# Altium schematic symbol library RPSLib.SchLib: 121 symbols (part 2 of 3)
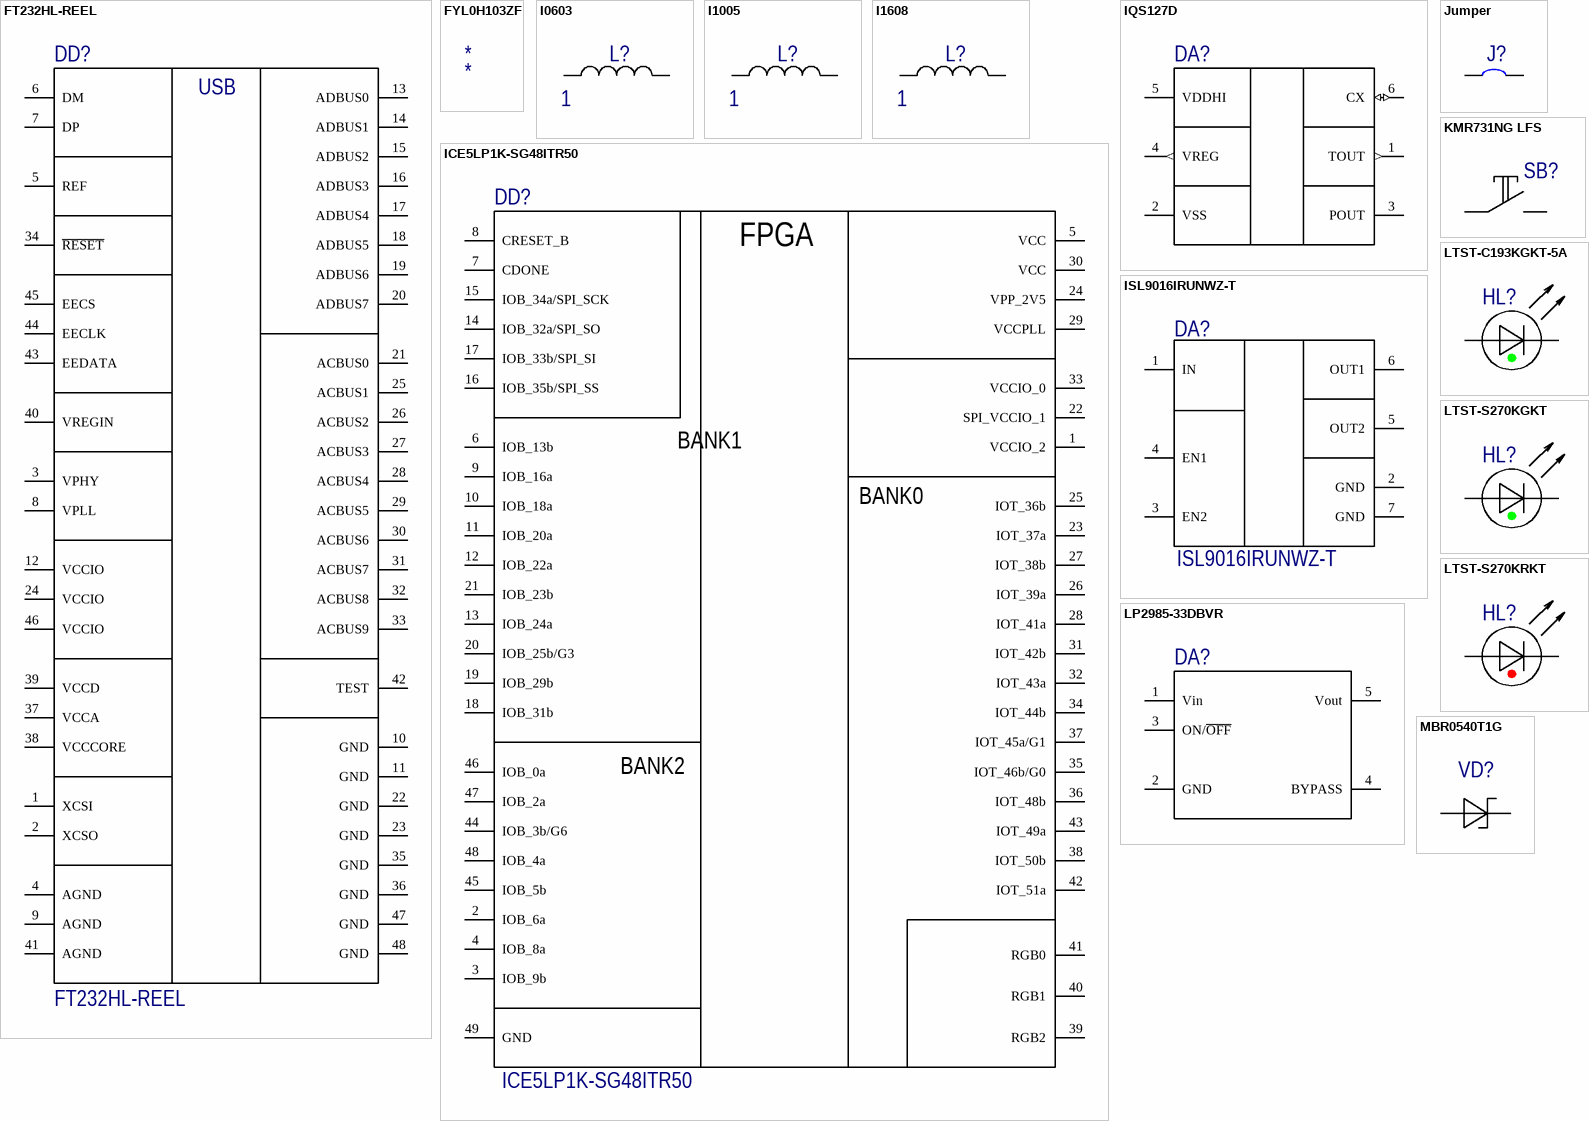
[diagram p7: symbols FT232HL-REEL to MBR0540T1G]

## LTST-C193KGKT-5A
designator HL?  (value not drawn)
Lite-On LTST-C193KGKT-5A Green LED, 576.5 nm 1608 (0603), Rectangle Lens SMD package; Manufacturer: Vishay Lite-On; Lens Colour: Clear,Colorless; Luminous Intensity: 28mcd; Forward Current: 30mA; Viewing Angle: 130°; Forward Voltage: 2.3V; Lens Style: Clear,Colorless,Diffused,Rectangular; Illumination Colour: Green,Yellow; Test Current: 5mA; Number of Elements: 1; Power Dissipation: 75mW; Reverse Voltage: 5V; Lens Transparency: Clear; РКД Наименование: LTST-C193KGKT-5A; Supplier 1: Digi-Key; Manufacturer Part Number: LTST-C193KGKT-5A; Stock 1: 421729; Pricing 1: 1=0.41, 10=0.296, 25=0.2268, 100=0.148, 250=0.10852, 500=0.0921, 1000=0.07565, 2500=0.06578 (USD); Mount: Surface Mount; Case/Package: 0603; Number of Pins: 2; Colour: Green; Case Code (Metric): 1608; Case Code (Imperial): 0603; Min Operating Temperature: -55°C; Max Operating Temperature: 85°C; Packaging: Tape and Reel; Package Quantity: 3000; Dominant Wavelength: 576.5nm; Number of LEDs: 1; Power Rating: 75mW; Length: 1.6mm; Height: 0.35mm; Width: 0.8mm; Depth: 0.8mm; Radiation Hardening: No; Lead Free: Lead Free; ComponentLink1URL: http://www1.futureelectronics.com/doc/LITE-ON/LTST-C193KGKT-5A.pdf; ComponentLink1Description: http://www1.futureelectronics.com/doc/LITE-ON/LTST-C193KGKT-5A.pdf; ComponentLink2URL: http://optoelectronics.liteon.com/upload/download/DS22-2007-0094/LTST-C193KGKT-5A.PDF; ComponentLink2Description: http://optoelectronics.liteon.com/upload/download/DS22-2007-0094/LTST-C193KGKT-5A.PDF; ComponentLink3URL: http://www.mouser.com/ds/2/239/LTST-C193_Series-201756.pdf; ComponentLink3Description: http://www.mouser.com/ds/2/239/LTST-C193_Series-201756.pdf; ComponentLink4URL: http://uk.rs-online.com/webdocs/1406/0900766b81406ab4.pdf; ComponentLink4Description: http://uk.rs-online.com/webdocs/1406/0900766b81406ab4.pdf; Supplier Part Number 1: 160-1828-1-ND
footprint DIOC1608X04N_LED (Chip LED, 2-Leads, Body 1,60x0,80mm, IPC Medium Density)
pins: 1 C, 2 A
1 alternate drawing of the same symbol

## LTST-S270KGKT
designator HL?  (value not drawn)
LED Uni-Color Green 574nm 2-Pin Chip LED T/R; Manufacturer: Vishay Lite-On; Lens Colour: Clear,Colorless; Forward Current: 30mA; Forward Voltage: 2V; Luminous Intensity: 71mcd; Viewing Angle: 130°; Lens Style: Clear,Colorless,Diffused,Rectangular; Dominant Wavelength: 571nm; Test Current: 20mA; Lens Transparency: Clear; Number of Elements: 1; Power Dissipation: 75mW; Reverse Voltage: 5V; РКД Наименование: LTST-S270KGKT - Green LED, right angle SMD; Digikey: *; Supplier 1: Digi-Key; Manufacturer Part Number: LTST-S270KGKT; Stock 1: 455373; Pricing 1: 1=0.32, 10=0.23, 25=0.1696, 100=0.1213, 250=0.08244, 500=0.07276, 1000=0.05699 (USD); Mount: Surface Mount; Case/Package: 0603; Number of Pins: 2; Colour: Green; Case Code (Metric): 1608; Case Code (Imperial): 0603; Min Operating Temperature: -55°C; Max Operating Temperature: 85°C; Illumination Colour: Green; Packaging: Tape and Reel; Package Quantity: 1; Wavelength: 574nm; Number of LEDs: 1; Power Rating: 75mW; Length: 1.6mm; Height: 0.6mm; Width: 1.15mm; Depth: 0.6mm; Radiation Hardening: No; Lead Free: Lead Free; Supplier Part Number 1: 160-1478-1-ND
footprint LTST-S270KGKT (LED Green Right Angle)
pins: 1 C, 2 A
1 alternate drawing of the same symbol

## LTST-S270KRKT
designator HL?  (value not drawn)
LED Uni-Color Red 639nm 2-Pin Chip LED T/R; Manufacturer: Vishay Lite-On; Lens Colour: Clear,Colorless; Forward Voltage: 2V; Forward Current: 30mA; Luminous Intensity: 54mcd; Viewing Angle: 130°; Lens Style: Clear,Colorless,Diffused,Rectangular; Power Rating: 75mW; Dominant Wavelength: 631nm; Test Current: 20mA; Lens Transparency: Clear; Number of Elements: 1; Reverse Voltage: 5V; РКД Наименование: LTST-S270KRKT - Red LED, right angle SMD; Supplier 1: Digi-Key; Manufacturer Part Number: LTST-S270KRKT; Stock 1: 249625; Pricing 1: 1=0.27, 10=0.196, 25=0.1448, 100=0.1034, 250=0.07032, 500=0.06204, 1000=0.0486 (USD); Mount: Surface Mount; Case/Package: 0603; Number of Pins: 2; Colour: Red; Case Code (Metric): 1608; Case Code (Imperial): 0603; Min Operating Temperature: -55°C; Max Operating Temperature: 85°C; Packaging: Tape and Reel; Package Quantity: 1; Illumination Colour: Red; Power Dissipation: 75mW; Wavelength: 639nm; Number of LEDs: 1; Max Power Dissipation: 75mW; Length: 1.6mm; Height: 0.6mm; Width: 1.15mm; Depth: 0.6mm; Radiation Hardening: No; Lead Free: Lead Free; Supplier Part Number 1: 160-1479-1-ND
footprint LTST-S270KRKT (LED Red Right Angle)
pins: 1 C, 2 A
1 alternate drawing of the same symbol

## MBR0540T1G
designator VD?  (value not drawn)
DIODE SCHOTTKY 40V 500MA SOD123; Manufacturer: ON Semiconductor; Current: 0.5 A; Max Surge Current: 5.5A; Forward Voltage: 510mV; Peak Reverse Current: 20uA; Element Configuration: Single; Polarity: Standard; Voltage: 40 V; Supplier 1: Digi-Key; Supplier Part Number 1: MBR0540T1GOSCT-ND; PartNo: MBR0540T1G; Manufacturer Part Number: MBR0540T1G; Stock 1: 724811; Pricing 1: 1=0.41, 10=0.333, 100=0.1763, 500=0.116, 1000=0.07888 (USD); Case/Package: SOD-123-2; Number of Pins: 2; Contact Plating: Matte,Tin; Min Operating Temperature: -55°C; Max Operating Temperature: 150°C; Forward Current: 500mA; Package Quantity: 1; Packaging: Tape and Reel; Max Reverse Leakage Current: 20uA; Average Rectified Current: 500mA; Max Repetitive Reverse Voltage (Vrrm): 40V; Max Forward Surge Current (Ifsm): 5.5A; Peak Non-Repetitive Surge Current: 5.5A; Voltage Rating (DC): 40V; Current Rating: 500mA; Output Current: 500mA; Max Reverse Voltage (DC): 40V; Length: 0.111inch; Height: 0.049inch; Width: 0.071inch; Radiation Hardening: No; REACH SVHC: No SVHC; Lead Free: Lead Free; Halogen Free: Halogen Free; РКД Наименование: *
footprint SOD123 (Footprint not found)
pins: 1, 2

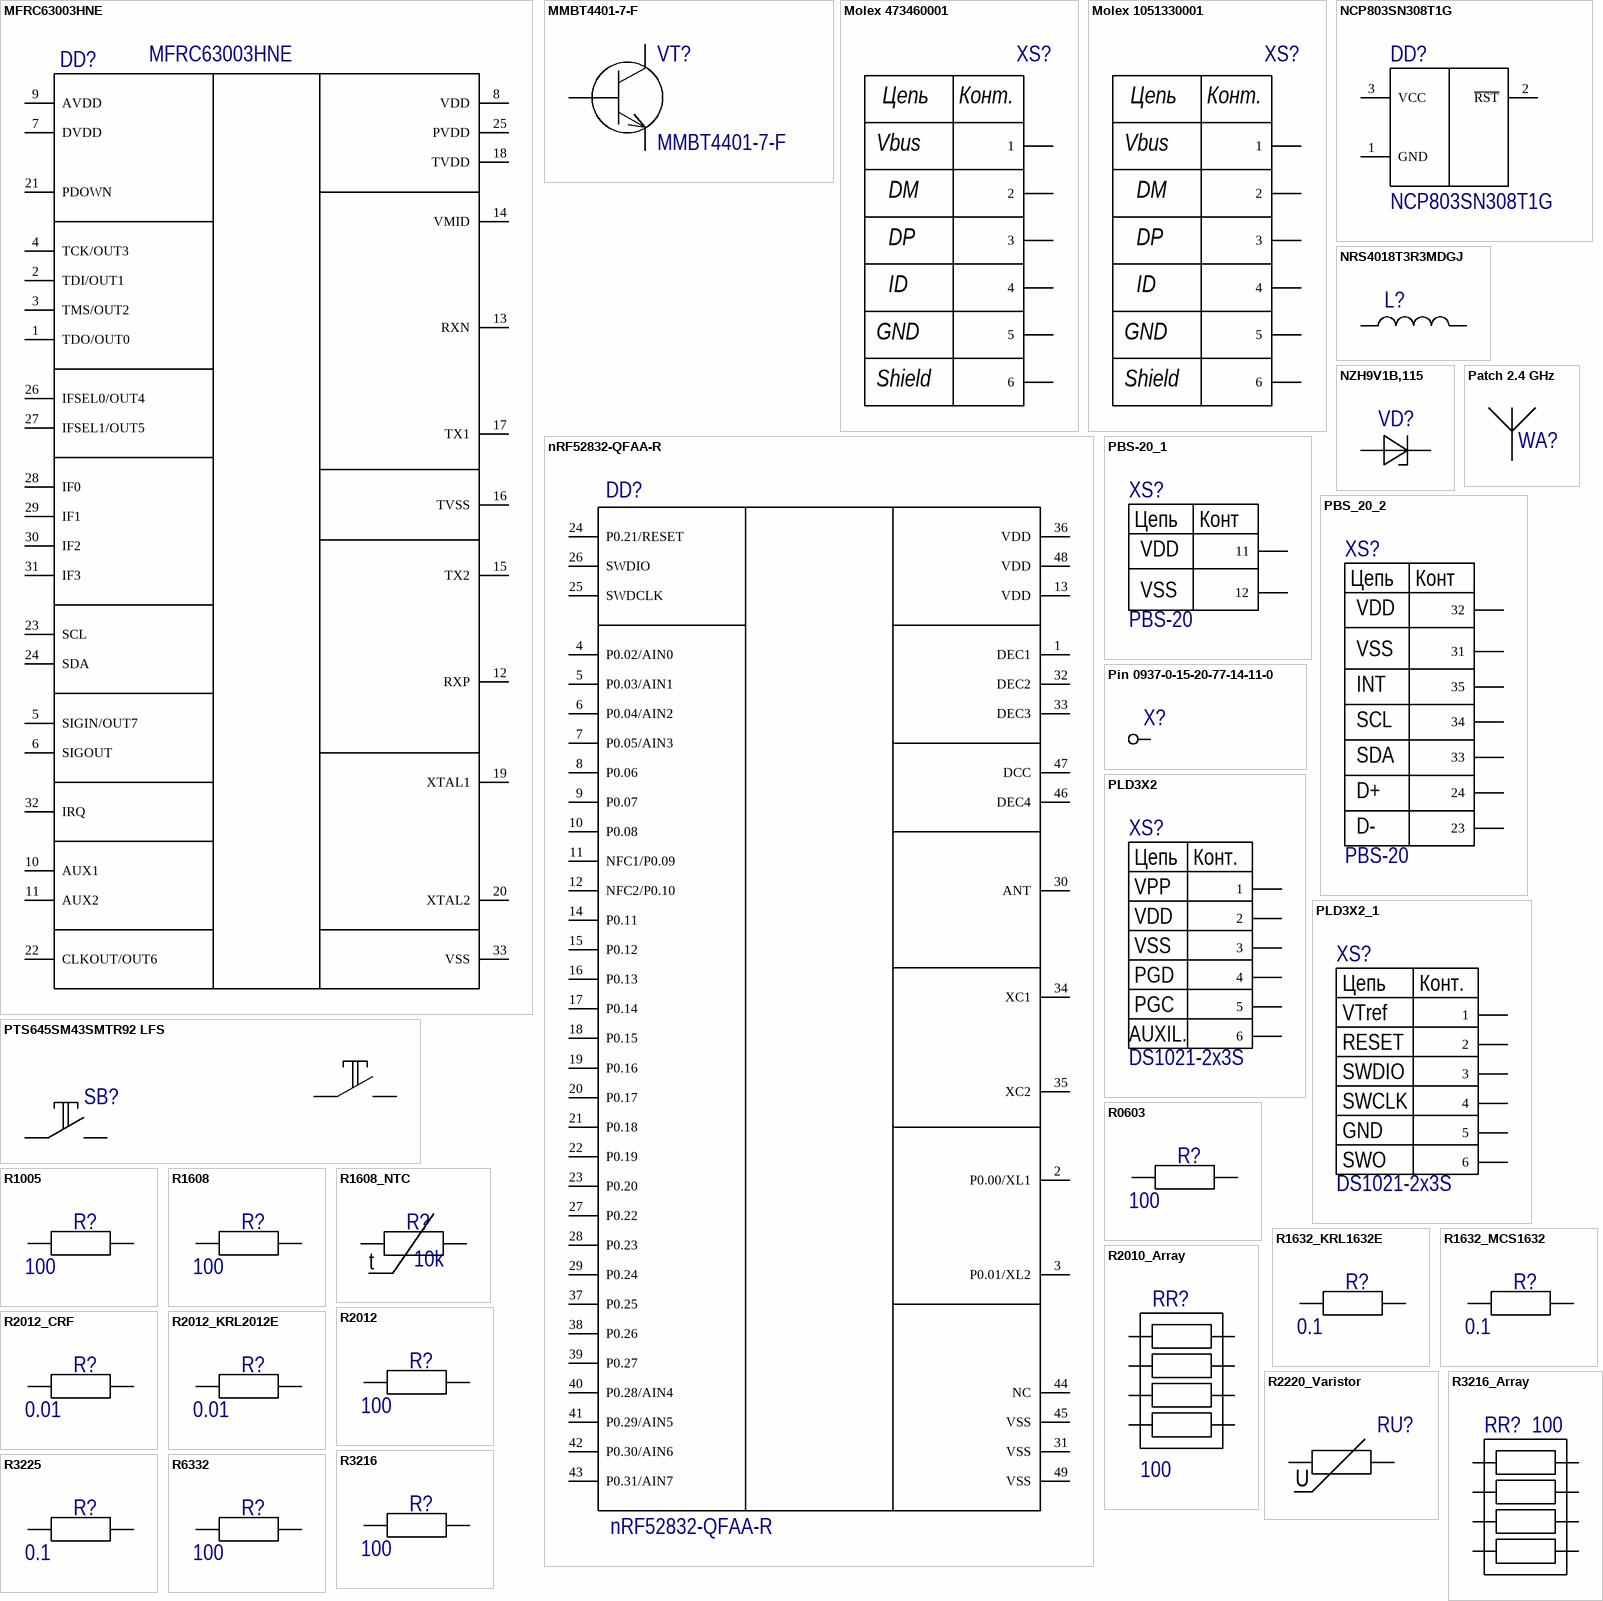
[diagram p3: symbols MFRC63003HNE to R6332]

## MFRC63003HNE
designator DD?
IC RFID TRANSP 13.56MHZ 32HVQFN; Manufacturer: NXP Semiconductors; Supplier 1: Digi-Key; Stock 1: 543; Pricing 1: 1=5.04, 10=4.522, 25=4.2752, 490=3.515, 980=3.154, 1470=2.66 (USD); Supplier Part Number 1: 568-13700-ND; Manufacturer Part Number: MFRC63003HNE
footprint QFN50P500X500X100_HS-33N_MFRC (QFN, 32-Leads, Body 5,00x5,00mm, Pitch 0,50mm, Thermal Pad 3,10x3,10mm, IPC Medium Density)
pins: 1 TDO/OUT0, 2 TDI/OUT1, 3 TMS/OUT2, 4 TCK/OUT3, 5 SIGIN/OUT7, 6 SIGOUT, 7 DVDD, 8 VDD, 9 AVDD, 10 AUX1, 11 AUX2, 12 RXP, 13 RXN, 14 VMID, 15 TX2, 16 TVSS, 17 TX1, 18 TVDD, 19 XTAL1, 20 XTAL2, 21 PDOWN, 22 CLKOUT/OUT6, 23 SCL, 24 SDA, 25 PVDD, 26 IFSEL0/OUT4, 27 IFSEL1/OUT5, 28 IF0, 29 IF1, 30 IF2, 31 IF3, 32 IRQ, 33 VSS

## MMBT4401-7-F
designator VT?
TRANS NPN 40V 0.6A SMD SOT23-3; Manufacturer: Diodes; Max Power Dissipation: 300mW; Max Collector Current: 600mA; Collector Base Voltage (VCBO): 60V; Frequency: 250MHz; hFE Min: 100; Number of Elements: 1; Emitter Base Voltage (VEBO): 6V; Collector Emitter Saturation Voltage: 750mV; Power Dissipation: 310mW; Element Configuration: Single; Supplier 1: Digi-Key; Manufacturer Part Number: MMBT4401-7-F; Stock 1: 416046; Pricing 1: 1=0.15, 10=0.134, 100=0.0729, 500=0.04486, 1000=0.03059 (USD); Mount: Surface Mount; Case/Package: SOT-23; Number of Pins: 3; Weight: 0.000282oz; Contact Plating: Matte,Tin; Min Operating Temperature: -55°C; Max Operating Temperature: 150°C; Collector Emitter Voltage (VCEO): 40V; Polarity: NPN; Packaging: Tape and Reel; Package Quantity: 3000; Transition Frequency: 250MHz; Collector Emitter Breakdown Voltage: 40V; Max Breakdown Voltage: 40V; Continuous Collector Current: 600mA; Max Frequency: 250MHz; Gain Bandwidth Product: 250MHz; Voltage Rating (DC): 40V; Length: 3.05mm; Height: 1mm; Width: 1.4mm; Radiation Hardening: No; REACH SVHC: No SVHC; Lead Free: Lead Free; Supplier Part Number 1: MMBT4401-FDICT-ND; РКД Наименование: *
footprint SOT95P232X100-3N (SOT23, 3-Leads, Body 2.92x2.32mm, Pitch 0.95mm, IPC Medium Density)
pins: 1 B, 2 E, 3 C

## Molex 473460001
designator XS?  (value not drawn)
Conn Micro USB Type B RCP 5 POS 0.65mm Solder RA SMD 5 Terminal 1 Port Embossed T/R; Manufacturer Part Number: 0473461001; Number of Contacts: 5; Gender: Receptacle; Number of Ports: 1; Max Voltage Rating (AC): 30V; РКД Наименование: *; Supplier 1: Digi-Key; Manufacturer: Molex; Stock 1: 27122; Pricing 1: 1=0.97, 10=0.867, 25=0.82, 50=0.7884, 100=0.7569, 250=0.69384, 500=0.63074, 1000=0.56766 (USD); Mount: Horizontal,Screw,Surface Mount; Contact Material: Copper Alloy; Contact Plating: Gold; Housing Material: Thermoplastic; Number of Terminals: 5; Min Operating Temperature: -30°C; Max Operating Temperature: 85°C; Termination: Solder; Orientation: Right Angle; Package Quantity: 2000; Packaging: Tape and Reel; Connector Type: USB; Features: Shielded; Length: 7.8mm; Pitch: 0.65mm; ComponentLink1URL: http://www.molex.com/pdm_docs/sd/473461001_sd.pdf; ComponentLink1Description: http://www.molex.com/pdm_docs/sd/473461001_sd.pdf; Supplier Part Number 1: WM11228CT-ND
footprint Molex 473460001
pins: 1, 2, 3, 4, 5, 6
text: Цепь; Конт.; Vbus; DM; DP; ID; GND; Shield

## Molex 1051330001
designator XS?  (value not drawn)
Conn Micro USB Type B RCP 5 POS 0.65mm Solder RA SMD 5 Terminal 1 Port T/R; Manufacturer Part Number: 105133-0001; Gender: Receptacle; Connector Type: Receptacle,USB; Number of Contacts: 5; Number of Ports: 1; Max Voltage Rating (AC): 30V; Current Rating: 1.8A; USB Standard: USB 2.0; Supplier 1: Digi-Key; Manufacturer: Molex; Stock 1: 41848; Pricing 1: 1=1.06, 10=0.928, 25=0.8732, 50=0.837, 100=0.8005, 250=0.72776 (USD); Mount: Surface Mount,Through Hole,Vertical; Contact Material: Copper Alloy; Contact Plating: Gold; Colour: Black; Number of Terminals: 5; Housing Material: Thermoplastic; Min Operating Temperature: -30°C; Max Operating Temperature: 85°C; Package Quantity: 500; Termination: Solder; Orientation: Right Angle; Packaging: Tape and Reel; Voltage Rating (AC): 30V; Features: Shielded; Pitch: 0.65mm; Radiation Hardening: No; REACH SVHC: Unknown; Flammability Rating: UL94 V-0; Supplier Part Number 1: WM9734CT-ND; РКД Наименование: *
footprint Molex 1051330001
pins: 1, 2, 3, 4, 5, 6
text: Цепь; Конт.; Vbus; DM; DP; ID; GND; Shield

## NCP803SN308T1G
designator DD?
IC MPU RESET MONITOR 3.08V SOT23; Manufacturer: ON Semiconductor; Min Supply Voltage: 1.2V; Max Supply Voltage: 5.5V; Nominal Supply Current: 800nA; Number of Voltages Monitored: 1; Reset: Active Low; Reset Timeout: 140ms; Overvoltage Threshold: 3.11V; Watchdog Timer: No; Min Reset Threshold Voltage: 3.04V; Supplier 1: Digi-Key; Manufacturer Part Number: NCP803SN308T1G; Stock 1: 17057; Pricing 1: 1=0.61, 10=0.534, 100=0.4094, 500=0.32362, 1000=0.2589 (USD); Mount: Surface Mount; Case/Package: SOT-23; Number of Pins: 3; Min Operating Temperature: -40°C; Max Operating Temperature: 105°C; Package Quantity: 3000; Packaging: Tape and Reel; Type: Simple Reset/Power-On Reset; Threshold Voltage: 3.08V; Undervoltage Threshold: 3.08V; Operating Supply Current: 800nA; Number of Elements: 1; Max Reset Threshold Voltage: 3.11V; Length: 2.2mm; Height: 0.9mm; Width: 1.35mm; Radiation Hardening: No; REACH SVHC: No SVHC; Lead Free: Lead Free; Halogen Free: Halogen Free; ComponentLink1URL: http://www.onsemi.cn/pub_link/Collateral/MAX803-D.PDF; ComponentLink1Description: http://www.onsemi.cn/pub_link/Collateral/MAX803-D.PDF; ComponentLink2URL: http://www.onsemi.com/pub/Collateral/MAX803-D.PDF; ComponentLink2Description: http://www.onsemi.com/pub/Collateral/MAX803-D.PDF; ComponentLink3URL: http://www.alliedelec.com/images/products/datasheets/bm/ON_SEMICONDUCTOR/70300500.pdf; ComponentLink3Description: http://www.alliedelec.com/images/products/datasheets/bm/ON_SEMICONDUCTOR/70300500.pdf; ComponentLink4URL: http://datasheet.iiic.cc/on_semiconductor/NCP803SN308T1G.pdf; ComponentLink4Description: http://datasheet.iiic.cc/on_semiconductor/NCP803SN308T1G.pdf; Supplier Part Number 1: NCP803SN308T1GOSCT-ND
footprint SOT95P232X100-3N (SOT23, 3-Leads, Body 2.92x2.32mm, Pitch 0.95mm, IPC Medium Density)
pins: 1 GND (power), 2 ~{RST}, 3 VCC (power)

## nRF52832-QFAA-R
designator DD?
IC RF TxRx + MCU Bluetooth, General ISM > 1GHz Bluetooth v4.1 2.4GHz 48-VFQFN Exposed Pad; Manufacturer: Nordic Semiconductor; Manufacturer Part Number: NRF52832-QFAA-R7; Data Rate: 2Mbps; Sensitivity: -96dBm; Memory Size: 64KB; Number of GPIO: 32; Interface: I2C,SPI,UART; Memory Type: FLASH; Current - Receiving: 10.4mA; Current - Transmitting: 15.2mA; Data Bus Width: 32b; Core Architecture: ARM; РКД Наименование: NRF52832-QFAA - RF TxRx MCU Bluetooth IC; Supplier 1: Digi-Key; Stock 1: 194661; Pricing 1: 1=5.73, 10=5.119, 25=4.6068, 100=4.1974, 250=3.78788, 500=3.39886, 1000=2.8665 (USD); Mount: Surface Mount; Case/Package: QFN; Number of Pins: 48; Min Operating Temperature: -40°C; Max Operating Temperature: 85°C; Packaging: Tape and Reel; Frequency: 2.4GHz; RAM Size: 64Kb; Max Frequency: 2.4GHz; Lead Free: Lead Free; Supplier Part Number 1: 1490-1052-1-ND
footprint QFN40P600X600X90-48N (QFN, 48-Leads, Body 6,0x6,0mm (max), Pitch 0,40mm, IPC Medium Density)
pins: 1 DEC1, 2 P0.00/XL1, 3 P0.01/XL2, 4 P0.02/AIN0, 5 P0.03/AIN1, 6 P0.04/AIN2, 7 P0.05/AIN3, 8 P0.06, 9 P0.07, 10 P0.08, 11 NFC1/P0.09, 12 NFC2/P0.10, 13 VDD, 14 P0.11, 15 P0.12, 16 P0.13, 17 P0.14, 18 P0.15, 19 P0.16, 20 P0.17, 21 P0.18, 22 P0.19, 23 P0.20, 24 P0.21/RESET, 25 SWDCLK, 26 SWDIO, 27 P0.22, 28 P0.23, 29 P0.24, 30 ANT, 31 VSS, 32 DEC2, 33 DEC3, 34 XC1, 35 XC2, 36 VDD, 37 P0.25, 38 P0.26, 39 P0.27, 40 P0.28/AIN4, 41 P0.29/AIN5, 42 P0.30/AIN6, 43 P0.31/AIN7, 44 NC, 45 VSS, 46 DEC4, 47 DCC, 48 VDD, 49 VSS

## NRS4018T3R3MDGJ
designator L?  (value not drawn)
FIXED IND 3.3UH 2A 66 MOHM SMD; Manufacturer: Taiyo Yuden; Core Material: Ferrite; Self Resonant Frequency: 45MHz; Tolerance: 20%; Saturation Current: 2.3A; Shielding: Shielded; DC Resistance (DCR): 55mR; Test Frequency: 100kHz; Supplier 1: Digi-Key; Manufacturer Part Number: NRS4018T3R3MDGJ; Stock 1: 40068; Pricing 1: 1=0.29, 10=0.261, 100=0.1793, 500=0.15324, 1000=0.11738 (USD); Mount: Surface Mount; Case/Package: Nonstandard; Number of Pins: 2; Min Operating Temperature: -25°C; Max Operating Temperature: 125°C; Packaging: Tape and Reel; Current Rating: 2A; Inductance: 3.3uh; Composition: Wirewound; Inductance Tolerance: 20%; Package Quantity: 3500; Max DC Current: 2.3A; Termination: SMD/SMT; RMS Current (Irms): 2A; Length: 4mm; Height: 1.8mm; Width: 0.157inch; Height - Seated (Max): 0.071inch; Depth: 4.2mm; Lead Pitch: 2.8mm; Radiation Hardening: No; REACH SVHC: Unknown; Lead Free: Lead Free; Halogen Free: Halogen Free; Supplier Part Number 1: 587-2892-1-ND; РКД Наименование: *
footprint NRS4018 (Fixed inductor 4.0x4.0x1.8 mm)
pins: 1, 2

## NZH9V1B,115
designator VD?  (value not drawn)
Diode Zener Single 9.04V 2% 1W Automotive 2-Pin Sod-123F T/R; Manufacturer: NXP Semiconductors; Max Power Dissipation: 500mW; Max Reverse Leakage Current: 500nA; Impedance: 8R; Supplier 1: Digi-Key; Manufacturer Part Number: NZH9V1B,115; Stock 1: 19138; Pricing 1: 1=0.21, 10=0.174, 100=0.0925, 500=0.0608, 1000=0.0414 (USD); Mount: Surface Mount; Number of Pins: 2; Min Operating Temperature: -55°C; Max Operating Temperature: 150°C; Zener Voltage: 9.04V; Element Configuration: Single; Packaging: Tape and Reel; Package Quantity: 1; Tolerance: 2%; Voltage Tolerance: 2%; Power Dissipation: 500mW; Radiation Hardening: No; Lead Free: Lead Free; ComponentLink1URL: http://www.nxp.com/documents/data_sheet/NZH_SER.pdf?src-supplier=Digi-Key; ComponentLink1Description: http://www.nxp.com/documents/data_sheet/NZH_SER.pdf?src-supplier=Digi-Key; ComponentLink2URL: http://www.nxp.com/documents/data_sheet/NZH_SER.pdf?src-supplier=Avnet+Europe; ComponentLink2Description: http://www.nxp.com/documents/data_sheet/NZH_SER.pdf?src-supplier=Avnet+Europe; Supplier Part Number 1: 1727-5081-1-ND
footprint SODFL350X110-2N (SODFL, 2-Leads, Body 1,65x3,50mm, IPC Medium Density)
pins: 1, 2

## Patch 2.4 GHz
designator WA?  (value not drawn)  (net tie, no BOM)
footprint 2.4GHz Patch
pins: 1

## PBS-20_1
designator XS?, comment PBS-20
ComponentLink1Description: datasheet; ComponentLink1URL: https://static.chipdip.ru/lib/226/DOC000226931.pdf; ComponentLink2Description: buy; ComponentLink2URL: https://www.chipdip.ru/catalog-show/pin-connectors-and-sockets?x.698=ZGQ&gq=PBS
footprint PBS-20 - 13
pins: 11, 12
text: Цепь; Конт; VDD; VSS

## PBS_20_2
designator XS?, comment PBS-20
footprint PBS-20
pins: 6 35, 7 34, 8 33, 9 32, 10 31, 17 24, 18 23
text: Цепь; Конт; VDD; VSS; INT; SCL; SDA; D+; D-

## Pin 0937-0-15-20-77-14-11-0
designator X?, comment Mill Max Spring loaded  (value not drawn)
Manufacturer: Mill-Max; Manufacturer Part Number: 0937-0-15-20-77-14-11-0; РКД Наименование: 0937-0-15-20-77-14-11-0 - Пружинный контакт; Supplier 1: Digi-Key; Stock 1: 716; Pricing 1: 1=0.96, 10=0.845, 25=0.7948, 50=0.7618, 100=0.7286, 250=0.6624, 500=0.59616, 1000=0.52992, 2500=0.48024 (USD); Supplier Part Number 1: ED10176-ND
footprint Mill Max 0937 (Mill Max Long stroke, Surface mount)
pins: 1

## PLD3X2
designator XS?, comment DS1021-2x3S
ComponentLink1Description: Datasheet; ComponentLink1URL: https://static.chipdip.ru/lib/227/DOC000227157.pdf; ComponentLink2Description: footprint; ComponentLink2URL: https://www.3dcontentcentral.com/secure/download-model.aspx?catalogid=171&id=227431
footprint DS1021-2x3S
pins: 1, 2, 3, 4, 5, 6
text: Цепь; Конт.; VPP; VDD; VSS; PGD; PGC; AUXIL.

## PLD3X2_1
designator XS?, comment DS1021-2x3S
ComponentLink1Description: Datasheet; ComponentLink1URL: https://static.chipdip.ru/lib/227/DOC000227157.pdf; ComponentLink2Description: footprint; ComponentLink2URL: https://www.3dcontentcentral.com/secure/download-model.aspx?catalogid=171&id=227431
footprint DS1021-2x3S
pins: 1, 2, 3, 4, 5, 6
text: Цепь; Конт.; VTref; RESET; SWDIO; SWCLK; GND; SWO

## PTS645SM43SMTR92 LFS
designator SB?  (value not drawn)
SWITCH TACTILE SPST-NO 0.05A 12V; Manufacturer: ITT C&K; Mechanical Life: 100000Cycles; Actuator Material: Nylon,Polyamide; Throw Configuration: SPST; Operating Force: 160gf; Contact Resistance: 100mR; Max Current Rating: 50mA; Illumination Type: Illuminated,Non-Illuminated; Switch Function: Off-Mom; Actuator Type: Standard; Actuator Length: 0.85mm; РКД Наименование: *; Supplier 1: Digi-Key; Manufacturer Part Number: PTS645SM43SMTR92LFS; Stock 1: 537538; Pricing 1: 1=0.16, 10=0.157, 25=0.1516, 50=0.1462, 100=0.1381, 250=0.12996, 500=0.12452 (USD); Mount: Surface Mount; Case/Package: SMD/SMT; Contact Plating: Silver; Contact Material: Silver; Colour: Black; Min Operating Temperature: -20°C; Max Operating Temperature: 60°C; Max Voltage Rating (DC): 12V; Packaging: Tape and Reel; Termination: Gull Wing; Package Quantity: 1000; Current Rating: 50mA; Voltage Rating (DC): 12V; Orientation: Straight; Length: 6mm; Depth: 9mm; Lead Free: Lead Free; REACH SVHC: No SVHC; ComponentLink1URL: https://www.verical.com/server-webapp/html/getDatasheet?partID=786341; ComponentLink1Description: https://www.verical.com/server-webapp/html/getDatasheet?partID=786341; ComponentLink2URL: https://www.ckswitches.com/media/1471/pts645.pdf; ComponentLink2Description: https://www.ckswitches.com/media/1471/pts645.pdf; ComponentLink3URL: https://www.verical.com/server-webapp/html/getDatasheet?partID=764615; ComponentLink3Description: https://www.verical.com/server-webapp/html/getDatasheet?partID=764615; Supplier Part Number 1: CKN9112CT-ND
footprint PTS645_SMT (SMD tactile switch)
pins: 1, 1, 2, 2

## R0603
designator R?  value 100  (hidden comment: R0603)
Резистор 0.6x0.3 мм; Type: *; PartNo: *; Supplier 1: *; Supplier Part Number 1: *
footprint RESC0603X02N (Chip Resistor, 2-Leads, Body 0.60x0.30mm, IPC Medium Density)
pins: 1, 2

## R1005
designator R?  value 100  (hidden comment: R1005)
Резистор 1.0x0.5 мм; Tolerance: ±5%; РКД Наименование: RC1005M - 100 Ohm ±5%; Type: *; PartNo: *; Supplier 1: *; Supplier Part Number 1: *
footprint RESC1005X03L (Chip Resistor, 2-Leads, Body 1.00x0.50mm, IPC High Density)
footprint RESC1005X03N (Chip Resistor, 2-Leads, Body 1.00x0.50mm, IPC Medium Density)
pins: 1, 2

## R1608
designator R?  value 100  (hidden comment: R1608)
Резистор 1.6x0.8 мм; Tolerance: ±5%; РКД Наименование: RC1608M - 100 Ohm ±5%; Type: *; PartNo: *; Supplier 1: *; Supplier Part Number 1: *
footprint RESC1608X05N (Chip Resistor, 2-Leads, Body 1.60x0.80mm, IPC Medium Density)
pins: 1, 2

## R1608_NTC
designator R?  value 10k  (hidden comment: R1608_NTC)
Резистор 1.6x0.8 мм; Tolerance: ±5%; Type: *; PartNo: *; Supplier 1: *; Supplier Part Number 1: *
footprint RESC1608X05N (Chip Resistor, 2-Leads, Body 1.60x0.80mm, IPC Medium Density)
pins: 1, 2
text: t

## R1632_KRL1632E
designator R?  value 0.1  (hidden comment: *)
Резистор 1.6x3.2 мм; Tolerance: ±5%; Type: *; PartNo: *; Supplier 1: Digi-Key; Supplier Part Number 1: *
footprint RESC3216X05N_KRL1632 (Chip Resistor, 2-Leads, Body 3.20x1.60mm, IPC Medium Density)
pins: 1, 2

## R1632_MCS1632
designator R?  value 0.1  (hidden comment: *)
Резистор 1.6x3.2 мм; Tolerance: ±1%; Power: 1.0W; Type: *; PartNo: *; Supplier 1: Digi-Key; Supplier Part Number 1: *
footprint RESC3216X06N-MSC1632 (Chip Resistor, 2-Leads, Body 3.20x1.60mm, IPC Medium Density)
pins: 1, 2

## R2010_Array
designator RR?  value 100  (hidden comment: R2010_Array)
Резисторы 3.2x1.6 мм; Tolerance: ±5%; Type: *; PartNo: *; Supplier 1: *; Supplier Part Number 1: *; РКД Наименование: *; Manufacturer Part Number: *
footprint EXBN8V (0402x4) (Chip Array, Concave, 8-Leads, Pitch 0,50mm,  Body 2,00x1,00mm,  IPC Medium Density)
pins: 1, 2, 3, 4, 5, 6, 7, 8

## R2012
designator R?  value 100  (hidden comment: R2012)
Резистор 2.0x1.2 мм; Type: *; PartNo: *; Supplier 1: *; Supplier Part Number 1: *; РКД Наименование: *
footprint RESC2012X06N (Chip Resistor, 2-Leads, Body 2.00x1.25mm, IPC Medium Density)
pins: 1, 2

## R2012_CRF
designator R?  value 0.01  (hidden comment: R2012_CRF)
Резистор 2.0x1.2 мм; Tolerance: 1%; Type: *; PartNo: *; Supplier 1: *; Supplier Part Number 1: *
footprint RESC2012X06N-CFR (Chip Resistor, 2-Leads, Body 1.95x1.25mm, IPC Medium Density)
pins: 1, 2

## R2012_KRL2012E
designator R?  value 0.01  (hidden comment: *)
Резистор 2.0x1.2 мм; Tolerance: ±5%; Type: *; PartNo: *; Supplier 1: Digi-Key; Supplier Part Number 1: *
footprint RESC1220X05N_KRL2012 (Chip Resistor, 2-Leads, Body 1.25x2.00mm, IPC Medium Density)
pins: 1, 2

## R2220_Varistor
designator RU?  (value not drawn)
Резистор 1.6x0.8 мм; Tolerance: ±5%; Value: 56V; Type: *; PartNo: *; Supplier 1: Digi-Key; Supplier Part Number 1: *
footprint RESC5750X25N (Chip Resistor, 2-Leads, Body 5.70x5.00mm, IPC Medium Density)
pins: 1, 2
1 alternate drawing of the same symbol
text: U

## R3216
designator R?  value 100  (hidden comment: R3216)
Резистор 3.2x1.6 мм; Type: *; PartNo: *; Supplier 1: *; Supplier Part Number 1: *
footprint RESC3216X06N (Chip Resistor, 2-Leads, Body 3.20x1.60mm, IPC Medium Density)
pins: 1, 2

## R3216_Array
designator RR?  value 100  (hidden comment: R3216_Array)
Резисторы 3.2x1.6 мм; Tolerance: ±5%; Type: *; PartNo: *; Supplier 1: *; Supplier Part Number 1: *
footprint CAC-80P319X159-8N (Chip Array, ConvexS, 8-Leads, Pitch 0.80mm,  Body 3.20x1.60mm,  IPC Medium Density)
pins: 1, 2, 3, 4, 5, 6, 7, 8

## R3225
designator R?  value 0.1  (hidden comment: R3225)
Резистор 3.2x2.5 мм; Type: *; PartNo: *; Supplier 1: *; Supplier Part Number 1: *
footprint RESC3225X06N (Chip Resistor, 2-Leads, Body 3.20x2.50mm, IPC Medium Density)
pins: 1, 2

## R6332
designator R?  value 100  (hidden comment: R6332)
Резистор 6.3x3.2 мм; Tolerance: ±5%; Type: *; PartNo: *; Supplier 1: *; Supplier Part Number 1: *
footprint RESC6332X06N (Chip Resistor, 2-Leads, Body 6.30x3.20mm, IPC Medium Density)
pins: 1, 2

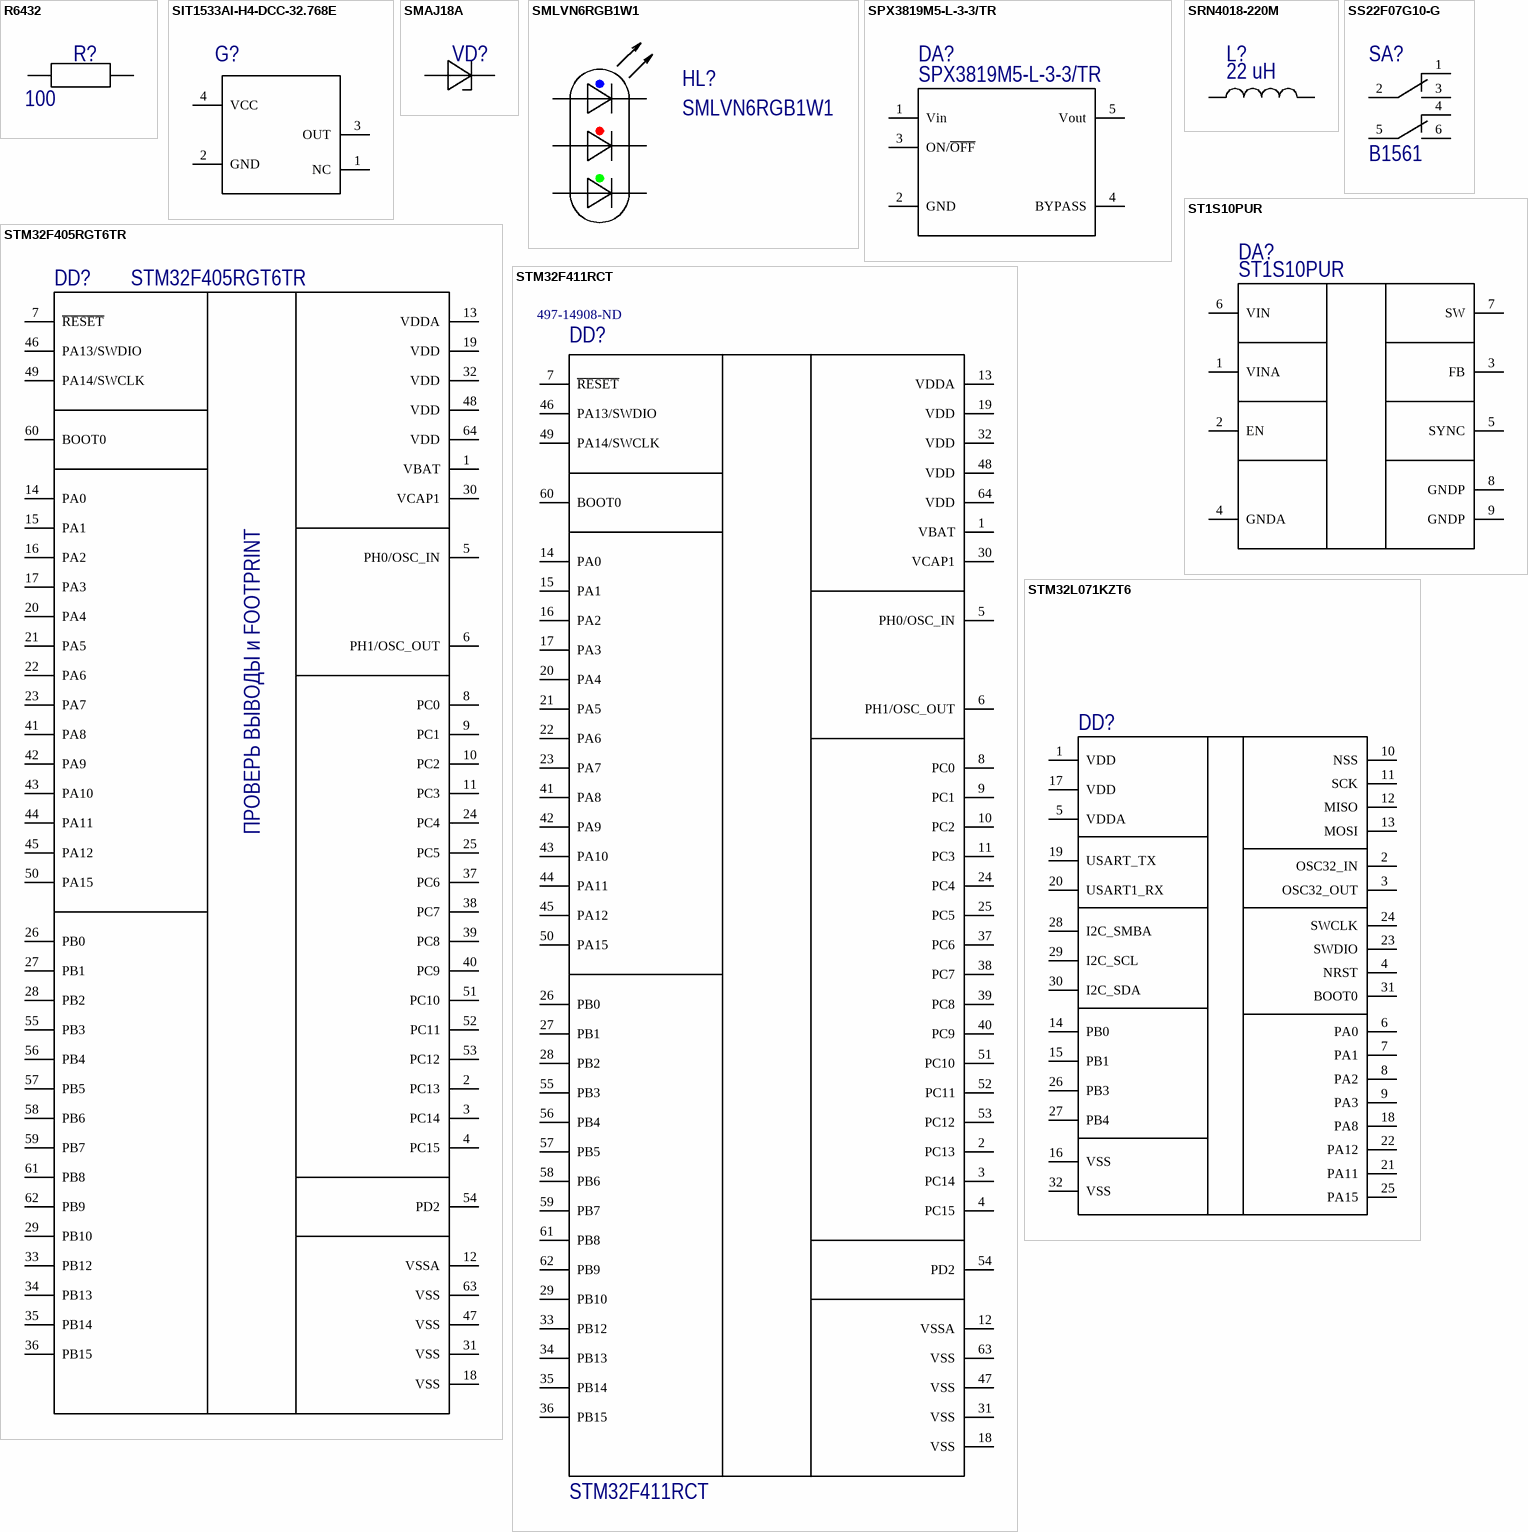
[diagram p4: symbols R6432 to STM32L071KZT6]

## R6432
designator R?  value 100  (hidden comment: R6432)
Резистор 6.4x3.2 мм; Type: *; PartNo: *; Supplier 1: *; Supplier Part Number 1: *
footprint RESC6432X07N (Chip Resistor, 2-Leads, Body 6.4x3.2mm, IPC Medium Density)
pins: 1, 2

## SIT1533AI-H4-DCC-32.768E
designator G?  (value not drawn)
MEMS OSC XO 32.7680KHZ LVCMOS; Manufacturer: SiTime; Frequency: 32.768kHz; Frequency Stability: 100ppm; Max Supply Current: 1.4uA; Load Capacitance: 10pF; Min Supply Voltage: 1.5V; Max Supply Voltage: 3.63V; Current Rating: 1.35uA; Max Duty Cycle: 52%; Supplier 1: Digi-Key; Stock 1: 109619; Pricing 1: 1=1.21, 10=1.072, 50=1.0018, 100=0.8852, 500=0.83866 (USD); Mount: Surface Mount; Case/Package: SMD/SMT; Number of Pins: 4; Min Operating Temperature: -40°C; Max Operating Temperature: 85°C; Packaging: Tape and Reel; Termination: SMD/SMT; Package Quantity: 1000; Length: 0.079inch; Height: 0.024inch; Width: 0.047inch; Manufacturer Part Number: SIT1533AI-H4-DCC-32.768E; Supplier Part Number 1: 1473-1239-1-ND
footprint SIT1533
pins: 1 NC, 2 GND, 3 OUT, 4 VCC

## SMAJ18A
designator VD?, comment SMAJ18A-13-F  (value not drawn)
Diode TVS Single Uni-Dir 18V 400W 2-Pin SMA T/R Description Diode TVS Single Uni-Dir 18V 400W 2-Pin SMA T/R; PartNo: SMAJ24A; Manufacturer: Diodes; Min Breakdown Voltage: 20V; Clamping Voltage: 29.2V; Polarity: Unidirectional; Peak Pulse Current: 13.7A; Number of Elements: 1; Max Surge Current: 40A; Test Current: 1mA; Leakage Current: 5uA; Power Line Protection: No; Max Breakdown Voltage: 22.1V; Capacitance: 580pF; Forward Voltage: 3.5V; Supplier 1: Digi-Key; Manufacturer Part Number: SMAJ18A-13-F; Stock 1: 36986; Pricing 1: 1=0.41, 10=0.311, 100=0.1937, 500=0.13256, 1000=0.10197 (USD); Mount: Surface Mount; Case/Package: SMA; Number of Pins: 2; Min Operating Temperature: -55°C; Max Operating Temperature: 150°C; Packaging: Tape and Reel; Reverse Standoff Voltage: 18V; Peak Pulse Power: 400W; Breakdown Voltage: 20V; Reverse Breakdown Voltage: 20V; Package Quantity: 5000; Termination: SMD/SMT; Max Power Dissipation: 400W; Direction: Unidirectional; Number of Unidirectional Channels: 1; Composition: Zener; Max Reverse Leakage Current: 5uA; Element Configuration: Single; Voltage Rating (DC): 18V; Power Dissipation: 400W; Working Voltage: 18V; Max Output Current: 13.7A; Length: 4.6mm; Height: 2.1mm; Width: 2.92mm; Radiation Hardening: No; Lead Free: Lead Free; Supplier Part Number 1: SMAJ18A-FDICT-ND; РКД Наименование: *
footprint DIOM4326X24N - SMA (Footprint not found)
pins: 1, 2

## SMLVN6RGB1W1
designator HL?
LED Tri-Color Blue/Green/Red Chip LED 6-Pin 1411 T/R; Manufacturer: Rohm; Colour: Blue,Green,Red; Lens Colour: White; Lens Transparency: Diffused; Luminous Intensity: 400mcd; Test Current: 20mA; Dominant Wavelength: 470nm; Lens Style: Colored,Rectangular; Forward Voltage: 3.3V; Number of LEDs: 3; РКД Наименование: SMLVN6RGB1W1 - RGB LED; PartNo: SMLVN6RGB1W1; Digikey: *; Supplier 1: Digi-Key; Manufacturer Part Number: SMLVN6RGB1W1; Stock 1: 27083; Pricing 1: 1=1.55, 10=1.263, 25=0.9712, 100=0.8742, 250=0.77704, 500=0.66048 (USD); Mount: Surface Mount; Case/Package: SMD/SMT; Number of Pins: 6; Packaging: Tape and Reel; Length: 3.1mm; Height: 0.7mm; Width: 2.8mm; Lead Free: Lead Free; Supplier Part Number 1: 846-1187-6-ND
footprint LED3528M (SMD LED 3.5x2.8 mm, 0.6mm height)
pins: 1 AB, 2 AR, 3 AG, 4 CG, 5 CR, 6 CB
1 alternate drawing of the same symbol

## SPX3819M5-L-3-3/TR
designator DA?
IC REG LINEAR 3.3V 500MA SOT23-5; Manufacturer: Exar; Dropout Voltage: 340mV; Number of Outputs: 1; Min Input Voltage: 2.5V; Max Input Voltage: 16V; Polarity: Positive; Quiescent Current: 3uA; Accuracy: 1%; Output Type: Fixed; Min Current Limit: 175mA; Power Supply Rejection Ratio (PSRR): 80dB; Supplier 1: Digi-Key; Stock 1: 74655; Pricing 1: 1=0.57, 10=0.479, 25=0.4196, 100=0.3595, 250=0.3116, 500=0.26364, 1000=0.20373 (USD); Mount: Surface Mount; Case/Package: SOT-23-5; Number of Pins: 5; Min Operating Temperature: -40°C; Max Operating Temperature: 125°C; Output Voltage: 3.3V; Packaging: Tape and Reel; Output Current: 500mA; Max Output Current: 500mA; Number of Regulators: 1; Min Output Voltage: 3.3V; Output Voltage Accuracy: 1%; Length: 2.9mm; Height: 1.3mm; Width: 1.6mm; Radiation Hardening: No; Lead Free: Lead Free; ComponentLink1URL: https://www.exar.com/content/document.ashx?id=22106&src-supplier=Digi-Key; ComponentLink1Description: https://www.exar.com/content/document.ashx?id=22106&src-supplier=Digi-Key; ComponentLink2URL: http://www1.futureelectronics.com/doc/EXAR/spx3819_Series.pdf?src-supplier=Future+Electronics; ComponentLink2Description: http://www1.futureelectronics.com/doc/EXAR/spx3819_Series.pdf?src-supplier=Future+Electronics; Package Quantity: 1; ComponentLink3URL: http://www.intersil.com/content/dam/Intersil/documents/isl9/isl9016.pdf?src-supplier=Digi-Key; ComponentLink3Description: http://www.intersil.com/content/dam/Intersil/documents/isl9/isl9016.pdf?src-supplier=Digi-Key; ComponentLink4URL: http://www.intersil.com/content/dam/Intersil/documents/isl9/isl9016.pdf?src-supplier=Avnet; ComponentLink4Description: http://www.intersil.com/content/dam/Intersil/documents/isl9/isl9016.pdf?src-supplier=Avnet; Manufacturer Part Number: SPX3819M5-L-3-3/TR; Supplier Part Number 1: 1016-1873-1-ND
footprint SOT95P280X145-5N (SOT23, 5-Leads, Body 2.90x2.80mm, Pitch 0.95mm, IPC Medium Density)
pins: 1 Vin, 2 GND, 3 ON/~{OFF}, 4 BYPASS, 5 Vout

## SRN4018-220M
designator L?  value 22 uH  (hidden comment: SRN4018-220M)
FIXED IND 22UH 900MA 348 MOHM; Manufacturer: Bourns; Current: 0.9 A; Core Material: Ferrite; Material: Steel; Tolerance: 20%; Shielding: Shielded; DC Resistance (DCR): 348mR; Self Resonant Frequency: 15MHz; Saturation Current: 950mA; Test Frequency: 100kHz; PartNo: SRN4018-220M; Supplier 1: Digi-Key; Supplier Part Number 1: SRN4018-220MCT-ND; Manufacturer Part Number: SRN4018-220M; Stock 1: 133818; Pricing 1: 1=0.44, 10=0.382, 100=0.2731, 500=0.22942, 1000=0.18573 (USD); Mount: Surface Mount; Case/Package: Nonstandard; Number of Pins: 2; Min Operating Temperature: -25°C; Max Operating Temperature: 120°C; Package Quantity: 3000; Packaging: Tape and Reel; Inductance: 22uh; Max DC Current: 900mA; Termination: SMD/SMT; Current Rating: 900mA; Inductance Tolerance: 20%; Composition: Wirewound; DC Current: 900mA; Military Standard: Not; RMS Current (Irms): 900mA; Length: 4mm; Height: 1.8mm; Width: 4mm; Depth: 4.2mm; Height - Seated (Max): 0.071inch; Radiation Hardening: No; REACH SVHC: No SVHC; РКД Наименование: *
footprint SRN4018 (Inductors)
pins: 1, 2

## SS22F07G10-G
designator SA?, comment B1561
ComponentLink1Description: datasheet; ComponentLink1URL: http://www.platan.ru/pdf/datasheets/switronic/SS22F07G10-G.pdf; ComponentLink2Description: footprint; ComponentLink2URL: https://www.3dcontentcentral.com/secure/download-model.aspx?catalogid=171&id=686632; ComponentLink3Description: buy; ComponentLink3URL: https://www.chipdip.ru/product0/8138595341?from=visited_product
footprint B1561
pins: 1, 2, 3, 4, 5, 6

## ST1S10PUR
designator DA?
IC REG BUCK ADJ 3A SYNC DFN8; Manufacturer: STMicroelectronics; Output Voltage: 15.3V; Number of Outputs: 1; Min Input Voltage: 2.5V; Max Input Voltage: 18V; Switching Frequency: 1.2MHz; Efficiency: 90%; Synchronous Rectifier: Yes; Min Output Voltage: 800mV; Quiescent Current: 2.5mA; Output Type: Adjustable; Supplier 1: Digi-Key; Manufacturer Part Number: ST1S10PUR; Stock 1: 13825; Pricing 1: 1=1.78, 10=1.602, 100=1.2878, 500=1.05806, 1000=0.87668 (USD); Mount: Surface Mount; Case/Package: DFN; Number of Pins: 8; Weight: 0.001319oz; Min Operating Temperature: -25°C; Max Operating Temperature: 125°C; Package Quantity: 4500; Output Current: 3A; Operating Supply Voltage: 18V; Packaging: Tape and Reel; Max Output Current: 3A; Max Output Voltage: 15.3V; Max Duty Cycle: 90%; Length: 4mm; Height: 0.9mm; Width: 4mm; Radiation Hardening: No; Lead Free: Lead Free; REACH SVHC: No SVHC; Supplier Part Number 1: 497-6313-1-ND; РКД Наименование: *
footprint SON80P400X100_HS-9N (SON, 8-Leads, Body 4,00x4,00mm, Pitch 0,80mm, Thermal Pad 3,03x2,29mm, IPC Medium Density)
pins: 1 VINA, 2 EN, 3 FB, 4 GNDA, 5 SYNC, 6 VIN, 7 SW, 8 GNDP, 9 GNDP

## STM32F405RGT6TR
designator DD?
STM32F Series 1 MB Flash 192 KB RAM 168 MHz 32-Bit Microcontroller - LQFP-64; Manufacturer: STMicroelectronics; Core Architecture: ARM; Interface: CAN,I2C,I2S,IrDA,LIN,SPI,UART,USART,USB; Data Bus Width: 32b; RAM Size: 196KB; Number of I/Os: 51; Frequency: 168MHz; Memory Size: 1024KB; Max Supply Voltage: 3.6V; Min Supply Voltage: 1.8V; Number of Timers/Counters: 14; Oscillator Type: Internal; Number of ADC Channels: 16; Number of SPI Channels: 3; Peripherals: Brown-out Detect/Reset,DMA,LCD,POR,PWM,WDT; Number of UART Channels: 2; Watchdog Timer: Yes; Max Power Dissipation: 435mW; Supplier 1: Digi-Key; Manufacturer Part Number: STM32F405RGT6TR; Stock 1: 2483; Pricing 1: 1=11.7, 10=10.757, 100=9.0849, 500=8.0816 (USD); Mount: Surface Mount; Case/Package: LQFP; Number of Pins: 64; Contact Plating: Matte,Tin; Min Operating Temperature: -40°C; Max Operating Temperature: 85°C; Package Quantity: 1000; Packaging: Tape and Reel; Max Frequency: 168MHz; Number of I2C Channels: 3; Memory Type: FLASH; Number of Programmable I/O: 51; Number of USB Channels: 2; Length: 10mm; Height: 1.45mm; Width: 10mm; Radiation Hardening: No; Lead Free: Lead Free; ComponentLink1URL: http://www.st.com/st-web-ui/static/active/en/resource/technical/document/datasheet/DM00037051.pdf?src-supplier=Avnet; ComponentLink1Description: http://www.st.com/st-web-ui/static/active/en/resource/technical/document/datasheet/DM00037051.pdf?src-supplier=Avnet; Supplier Part Number 1: 497-17432-1-ND
footprint TSQFP50P1200X1200X160-64N (TSQFP, 64-Leads, Body 10,00x10,00mm, Pitch 0,50mm, IPC Medium Density)
pins: 1 VBAT, 2 PC13, 3 PC14, 4 PC15, 5 PH0/OSC_IN, 6 PH1/OSC_OUT, 7 ~{RESET}, 8 PC0, 9 PC1, 10 PC2, 11 PC3, 12 VSSA, 13 VDDA, 14 PA0, 15 PA1, 16 PA2, 17 PA3, 18 VSS, 19 VDD, 20 PA4, 21 PA5, 22 PA6, 23 PA7, 24 PC4, 25 PC5, 26 PB0, 27 PB1, 28 PB2, 29 PB10, 30 VCAP1, 31 VSS, 32 VDD, 33 PB12, 34 PB13, 35 PB14, 36 PB15, 37 PC6, 38 PC7, 39 PC8, 40 PC9, 41 PA8, 42 PA9, 43 PA10, 44 PA11, 45 PA12, 46 PA13/SWDIO, 47 VSS, 48 VDD, 49 PA14/SWCLK, 50 PA15, 51 PC10, 52 PC11, 53 PC12, 54 PD2, 55 PB3, 56 PB4, 57 PB5, 58 PB6, 59 PB7, 60 BOOT0, 61 PB8, 62 PB9, 63 VSS, 64 VDD
text: ПРОВЕРЬ ВЫВОДЫ и FOOTPRINT

## STM32F411RCT
designator DD?  Supplier Part Number 1: 497-14908-ND
32 Bit Microcontroller, Batch Acquisition Mode, ARM Cortex-M4, 100 MHz, 256 KB, 128 KB, 64 Pins; Manufacturer: STMicroelectronics; Manufacturer Part Number: STM32F411RCT6; RAM Size: 128KB; Max Power Dissipation: 313mW; Interface: I2C,I2S,IrDA,LIN,MMC,SD,SDIO,SPI,UART,USART,USB; Number of I/Os: 50; Number of Timers/Counters: 8; Frequency: 100MHz; Oscillator Type: Internal; Min Supply Voltage: 1.7V; Max Supply Voltage: 3.6V; Data Bus Width: 32b; Watchdog Timer: Yes; Memory Type: FLASH; Memory Size: 256KB; Number of ADC Channels: 16; Peripherals: Brown-out Detect/Reset,DMA,POR,PWM,WDT; Operating Supply Voltage: 3.3V; Supplier 1: Digi-Key; Stock 1: 2901; Pricing 1: 1=6.58, 10=5.91, 160=4.84188, 640=4.12178, 1120=3.4762 (USD); Mount: Surface Mount; Case/Package: LQFP; Number of Pins: 64; Weight: 0.012088oz; Min Operating Temperature: -40°C; Max Operating Temperature: 85°C; Packaging: Tray; Number of Programmable I/O: 50; Max Frequency: 100MHz; Package Quantity: 960; Core Architecture: ARM; Length: 10mm; Width: 10mm; Radiation Hardening: No; REACH SVHC: No SVHC; Lead Free: Lead Free; РКД Наименование: *
footprint TSQFP50P1200X1200X160-64N (TSQFP, 64-Leads, Body 10,00x10,00mm, Pitch 0,50mm, IPC Medium Density)
pins: 1 VBAT, 2 PC13, 3 PC14, 4 PC15, 5 PH0/OSC_IN, 6 PH1/OSC_OUT, 7 ~{RESET}, 8 PC0, 9 PC1, 10 PC2, 11 PC3, 12 VSSA, 13 VDDA, 14 PA0, 15 PA1, 16 PA2, 17 PA3, 18 VSS, 19 VDD, 20 PA4, 21 PA5, 22 PA6, 23 PA7, 24 PC4, 25 PC5, 26 PB0, 27 PB1, 28 PB2, 29 PB10, 30 VCAP1, 31 VSS, 32 VDD, 33 PB12, 34 PB13, 35 PB14, 36 PB15, 37 PC6, 38 PC7, 39 PC8, 40 PC9, 41 PA8, 42 PA9, 43 PA10, 44 PA11, 45 PA12, 46 PA13/SWDIO, 47 VSS, 48 VDD, 49 PA14/SWCLK, 50 PA15, 51 PC10, 52 PC11, 53 PC12, 54 PD2, 55 PB3, 56 PB4, 57 PB5, 58 PB6, 59 PB7, 60 BOOT0, 61 PB8, 62 PB9, 63 VSS, 64 VDD

## STM32L071KZT6
designator DD?
footprint *QFP80P900X900X160-32N
pins: 1 VDD, 2 OSC32_IN, 3 OSC32_OUT, 4 NRST, 5 VDDA, 6 PA0, 7 PA1, 8 PA2, 9 PA3, 10 NSS, 11 SCK, 12 MISO, 13 MOSI, 14 PB0, 15 PB1, 16 VSS, 17 VDD, 18 PA8, 19 USART_TX, 20 USART1_RX, 21 PA11, 22 PA12, 23 SWDIO, 24 SWCLK, 25 PA15, 26 PB3, 27 PB4, 28 I2C_SMBA, 29 I2C_SCL, 30 I2C_SDA, 31 BOOT0, 32 VSS

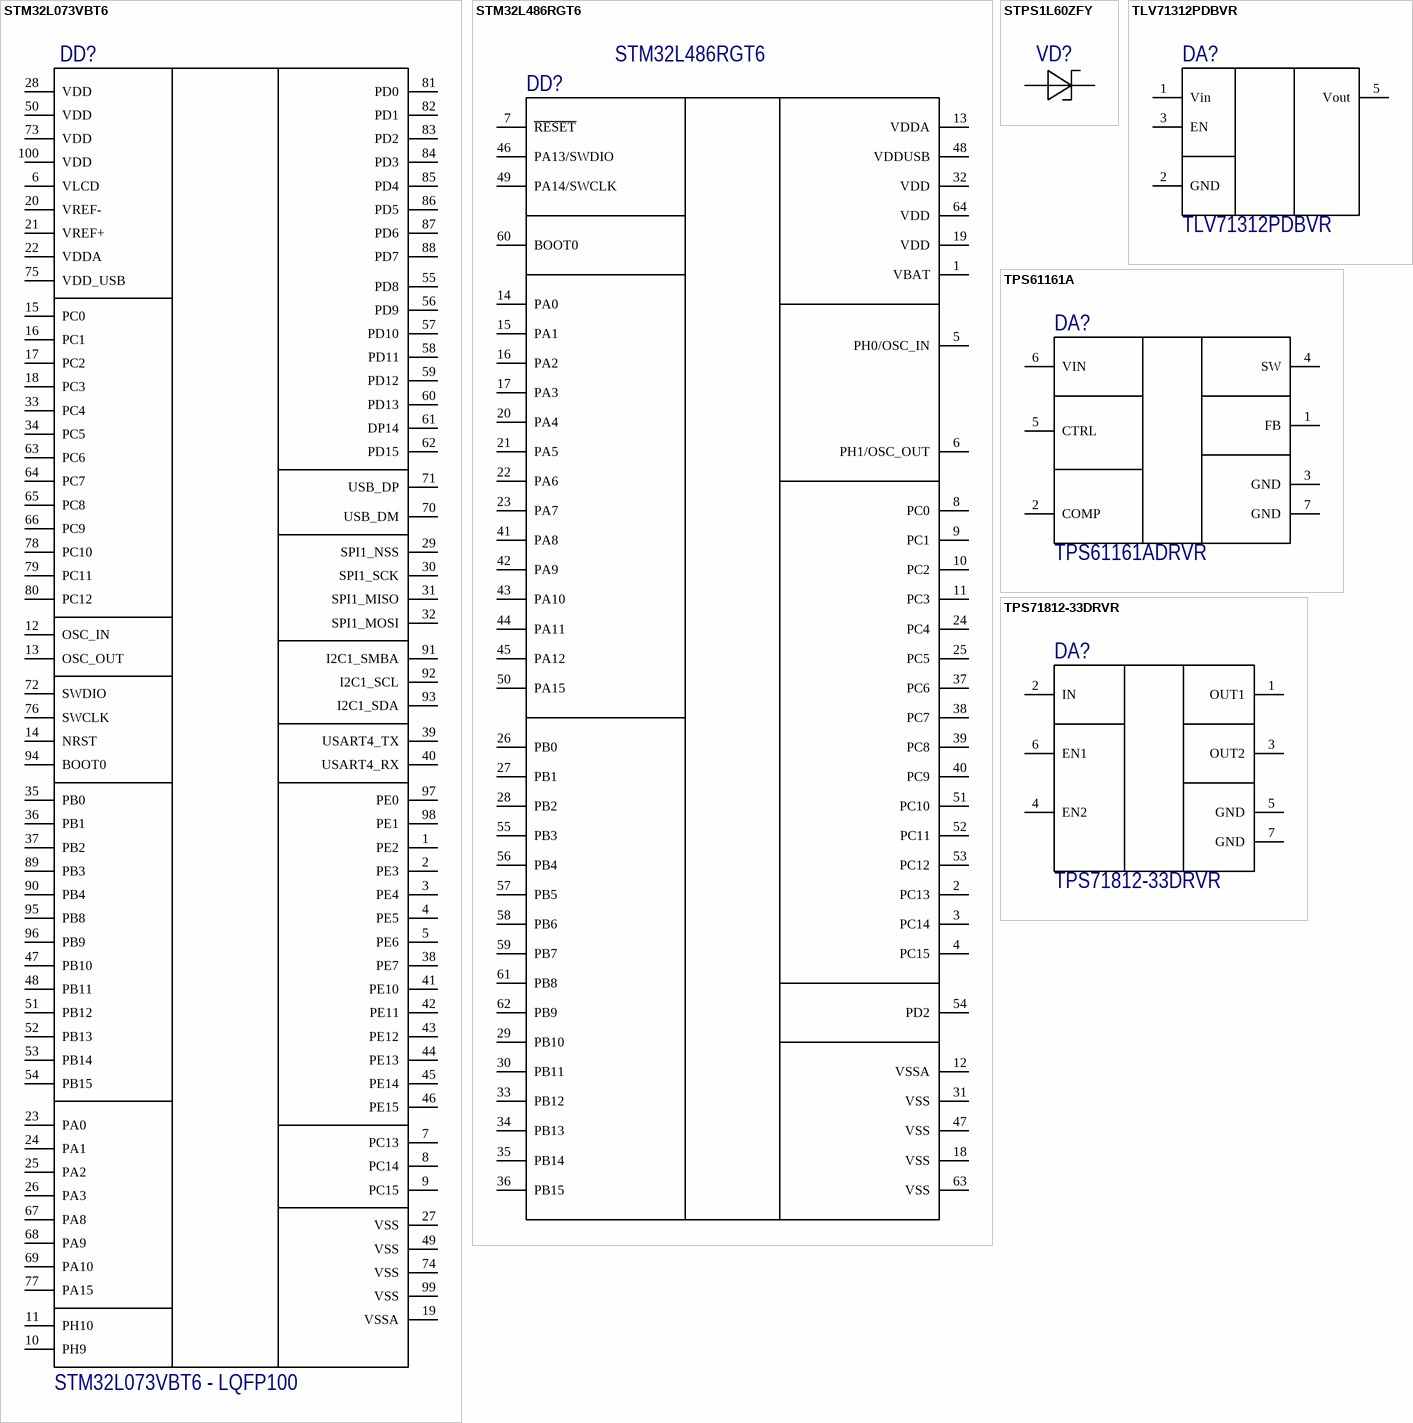
[diagram p5: symbols STM32L073VBT6 to TPS71812-33DRVR]

## STM32L073VBT6
designator DD?, comment STM32L073VBT6 - LQFP100
Ultra-low-power 32-bit MCU Arm®-based Cortex®-M0+, up to 192KB / Flash, 20KB SRAM, 6KB EEPROM, LCD, USB, ADC, DACs; ComponentLink1Description: datasheet; ComponentLink1URL: https://www.farnell.com/datasheets/2819148.pdf; ComponentLink2Description: buy; ComponentLink2URL: https://www.chipdip.ru/product/stm32l073vbt6
footprint *QFP50P1600X1600X170-100N
pins: 1 PE2, 2 PE3, 3 PE4, 4 PE5, 5 PE6, 6 VLCD, 7 PC13, 8 PC14, 9 PC15, 10 PH9, 11 PH10, 12 OSC_IN, 13 OSC_OUT, 14 NRST, 15 PC0, 16 PC1, 17 PC2, 18 PC3, 19 VSSA, 20 VREF-, 21 VREF+, 22 VDDA, 23 PA0, 24 PA1, 25 PA2, 26 PA3, 27 VSS, 28 VDD, 29 SPI1_NSS, 30 SPI1_SCK, 31 SPI1_MISO, 32 SPI1_MOSI, 33 PC4, 34 PC5, 35 PB0, 36 PB1, 37 PB2, 38 PE7, 39 USART4_TX, 40 USART4_RX, 41 PE10, 42 PE11, 43 PE12, 44 PE13, 45 PE14, 46 PE15, 47 PB10, 48 PB11, 49 VSS, 50 VDD, 51 PB12, 52 PB13, 53 PB14, 54 PB15, 55 PD8, 56 PD9, 57 PD10, 58 PD11, 59 PD12, 60 PD13, 61 DP14, 62 PD15, 63 PC6, 64 PC7, 65 PC8, 66 PC9, 67 PA8, 68 PA9, 69 PA10, 70 USB_DM, 71 USB_DP, 72 SWDIO, 73 VDD, 74 VSS, 75 VDD_USB, 76 SWCLK, 77 PA15, 78 PC10, 79 PC11, 80 PC12, 81 PD0, 82 PD1, 83 PD2, 84 PD3, 85 PD4, 86 PD5, 87 PD6, 88 PD7, 89 PB3, 90 PB4, 91 I2C1_SMBA, 92 I2C1_SCL, 93 I2C1_SDA, 94 BOOT0, 95 PB8, 96 PB9, 97 PE0, 98 PE1, 99 VSS, 100 VDD

## STM32L486RGT6
designator DD?
IC MCU 32BIT 1MB FLASH 64LQFP; Manufacturer: STMicroelectronics; Frequency: 80MHz; Interface: I2C,SPI,USB,CAN,IrDA,MMC,SD,UART,USART,LIN; Number of I/Os: 51; Oscillator Type: Internal; RAM Size: 128KB; Min Supply Voltage: 1.71V; Max Supply Voltage: 3.6V; Data Bus Width: 32b; Number of ADC Channels: 16; Data Rate: 5Mbps; Number of Timers/Counters: 11; Peripherals: Brown-out Detect/Reset,PWM,WDT,DMA,LCD; Core Architecture: ARM; Supplier 1: Digi-Key; Stock 1: 4803; Pricing 1: 1=10.07, 10=9.092, 160=7.52763, 640=6.55495, 1120=5.70915 (USD); Mount: Surface Mount; Case/Package: LQFP; Number of Pins: 64; Min Operating Temperature: -40°C; Max Operating Temperature: 85°C; Packaging: Tray; Max Frequency: 80MHz; Memory Type: FLASH; Memory Size: 1MB; Length: 10mm; Height: 1.45mm; Width: 10mm; REACH SVHC: No SVHC; Lead Free: Lead Free; Manufacturer Part Number: STM32L486RGT6; Supplier Part Number 1: 497-15874-ND
footprint TSQFP50P1200X1200X160-64N (TSQFP, 64-Leads, Body 10,00x10,00mm, Pitch 0,50mm, IPC Medium Density)
pins: 1 VBAT, 2 PC13, 3 PC14, 4 PC15, 5 PH0/OSC_IN, 6 PH1/OSC_OUT, 7 ~{RESET}, 8 PC0, 9 PC1, 10 PC2, 11 PC3, 12 VSSA, 13 VDDA, 14 PA0, 15 PA1, 16 PA2, 17 PA3, 18 VSS, 19 VDD, 20 PA4, 21 PA5, 22 PA6, 23 PA7, 24 PC4, 25 PC5, 26 PB0, 27 PB1, 28 PB2, 29 PB10, 30 PB11, 31 VSS, 32 VDD, 33 PB12, 34 PB13, 35 PB14, 36 PB15, 37 PC6, 38 PC7, 39 PC8, 40 PC9, 41 PA8, 42 PA9, 43 PA10, 44 PA11, 45 PA12, 46 PA13/SWDIO, 47 VSS, 48 VDDUSB, 49 PA14/SWCLK, 50 PA15, 51 PC10, 52 PC11, 53 PC12, 54 PD2, 55 PB3, 56 PB4, 57 PB5, 58 PB6, 59 PB7, 60 BOOT0, 61 PB8, 62 PB9, 63 VSS, 64 VDD

## STPS1L60ZFY
designator VD?  (value not drawn)
DIODE SCHOTTKY 60V 1A SOD123F; Manufacturer: STMicroelectronics; Supplier 1: Digi-Key; Manufacturer Part Number: STPS1L60ZFY; Stock 1: 85300; Pricing 1: 1=0.47, 10=0.346, 100=0.196, 500=0.1298, 1000=0.0995 (USD); Mount: Surface Mount; Case/Package: SOD; Packaging: Tape and Reel; Max Reverse Voltage (DC): 60V; Average Rectified Current: 1A; Supplier Part Number 1: 497-17154-1-ND
footprint SODFL350X110-2N (SODFL, 2-Leads, Body 1,65x3,50mm, IPC Medium Density)
pins: 1 2, 2 1

## TLV71312PDBVR
designator DA?
LDO Voltage Regulators 150-mA LDO Reg w/ Foldbk Current Limit; Manufacturer: Texas Instruments; Dropout Voltage: 600mV; Number of Outputs: 1; Min Input Voltage: 1.4V; Max Input Voltage: 5.5V; Max Output Current: 150mA; Output Voltage: 1.2V; Min Current Limit: 180mA; Polarity: Positive; Accuracy: 1%; Power Supply Rejection Ratio (PSRR): 70dB; Quiescent Current: 50uA; Output Type: Fixed; Supplier 1: Digi-Key; Manufacturer Part Number: TLV71312PDBVR; Stock 1: 30621; Pricing 1: 1=0.42, 10=0.339, 100=0.2307, 500=0.17304, 1000=0.12978 (USD); Mount: Surface Mount; Case/Package: SOT-23; Number of Pins: 5; Contact Plating: Gold; Min Operating Temperature: -40°C; Max Operating Temperature: 125°C; Package Quantity: 1; Packaging: Tape and Reel; Output Current: 150mA; Number of Regulators: 1; Nominal Output Voltage: 1.2V; Output Voltage Accuracy: 1%; Radiation Hardening: No; REACH SVHC: No SVHC; Lead Free: Lead Free; Supplier Part Number 1: 296-35589-1-ND; РКД Наименование: *
footprint SOT95P280X110-5N (SOT23, 5-Leads, Body 2,90x2,80mm, Pitch 0,95mm, IPC Medium Density)
pins: 1 Vin, 2 GND, 3 EN, 5 Vout

## TPS61161A
designator DA?, comment TPS61161ADRVR
IC LED DRIVER WHITE BCKLGT 6SON; Manufacturer: Texas Instruments; Output Current: 85mA; Max Power Dissipation: 1.54W; Number of Outputs: 1; Frequency: 700kHz; Max Supply Voltage: 18V; Min Supply Voltage: 2.7V; Max Supply Current: 1.8mA; Output Voltage: 38V; Number of Segments: 10; Low Level Output Current: 100uA; Quiescent Current: 1.5mA; Topology: Boost; Supplier 1: Digi-Key; Manufacturer Part Number: TPS61161ADRVR; Stock 1: 27247; Pricing 1: 1=1.32, 10=1.176, 100=0.9168, 500=0.75736, 1000=0.59792 (USD); Number of Pins: 6; Contact Plating: Gold; Min Operating Temperature: -40°C; Max Operating Temperature: 85°C; Packaging: Tape and Reel; Package Quantity: 3000; Max Input Voltage: 18V; Min Input Voltage: 2.7V; Power Dissipation: 1.54W; High Level Output Current: 100uA; Number of Channels: 1; Radiation Hardening: No; Lead Free: Lead Free; Supplier Part Number 1: 296-24512-6-ND; РКД Наименование: *
footprint PSON65P200X80_HS-7N (PSON, 6-Leads, Body 2.00x2.00mm, Pitch 0.65mm, Thermal Pad 1.60x0.96mm, IPC Medium Density)
pins: 1 FB, 2 COMP, 3 GND, 4 SW, 5 CTRL, 6 VIN, 7 GND

## TPS71812-33DRVR
designator DA?
IC REG LIN 1.2V/3.3V 200MA 6SON; Manufacturer: Texas Instruments; Max Power Dissipation: 1.053W; Dropout Voltage: 230mV; Number of Outputs: 2; Output Voltage: 3.3V; Max Input Voltage: 6.5V; Min Input Voltage: 2.7V; Min Current Limit: 240mA; Input Bias Current: 90uA; Polarity: Positive; Output Voltage Accuracy: 2.5%; Output Type: Fixed; РКД Наименование: TPS71812-33DRVR - Регулятор напряжения; Supplier 1: Digi-Key; Manufacturer Part Number: TPS71812-33DRVR; Stock 1: 2420; Pricing 1: 1=1.72, 10=1.545, 100=1.2417, 500=1.0202, 1000=0.8453 (USD); Number of Pins: 6; Min Operating Temperature: -40°C; Max Operating Temperature: 125°C; Package Quantity: 1; Output Current: 200mA; Packaging: Tape and Reel; Max Output Current: 200mA; Number of Regulators: 2; Power Dissipation: 1.053W; Accuracy: 2.5%; Quiescent Current: 90uA; Radiation Hardening: No; Lead Free: Lead Free; ComponentLink1URL: http://www.ti.com/lit/ds/symlink/tps718.pdf?src-supplier=Digi-Key; ComponentLink1Description: http://www.ti.com/lit/ds/symlink/tps718.pdf?src-supplier=Digi-Key; ComponentLink2URL: http://www.ti.com/general/docs/lit/getliterature.tsp?genericPartNumber=TPS71928-28&&fileType=pdf&src-supplier=Avnet; ComponentLink2Description: http://www.ti.com/general/docs/lit/getliterature.tsp?genericPartNumber=TPS71928-28&&fileType=pdf&src-supplier=Avnet; Supplier Part Number 1: 296-22009-1-ND
footprint PSON65P200X80_HS-7N (PSON, 6-Leads, Body 2,00x2,00mm, Pitch 0,65mm, Thermal Pad 1,60x0,96mm, IPC Medium Density)
pins: 1 OUT1, 2 IN, 3 OUT2, 4 EN2, 5 GND, 6 EN1, 7 GND

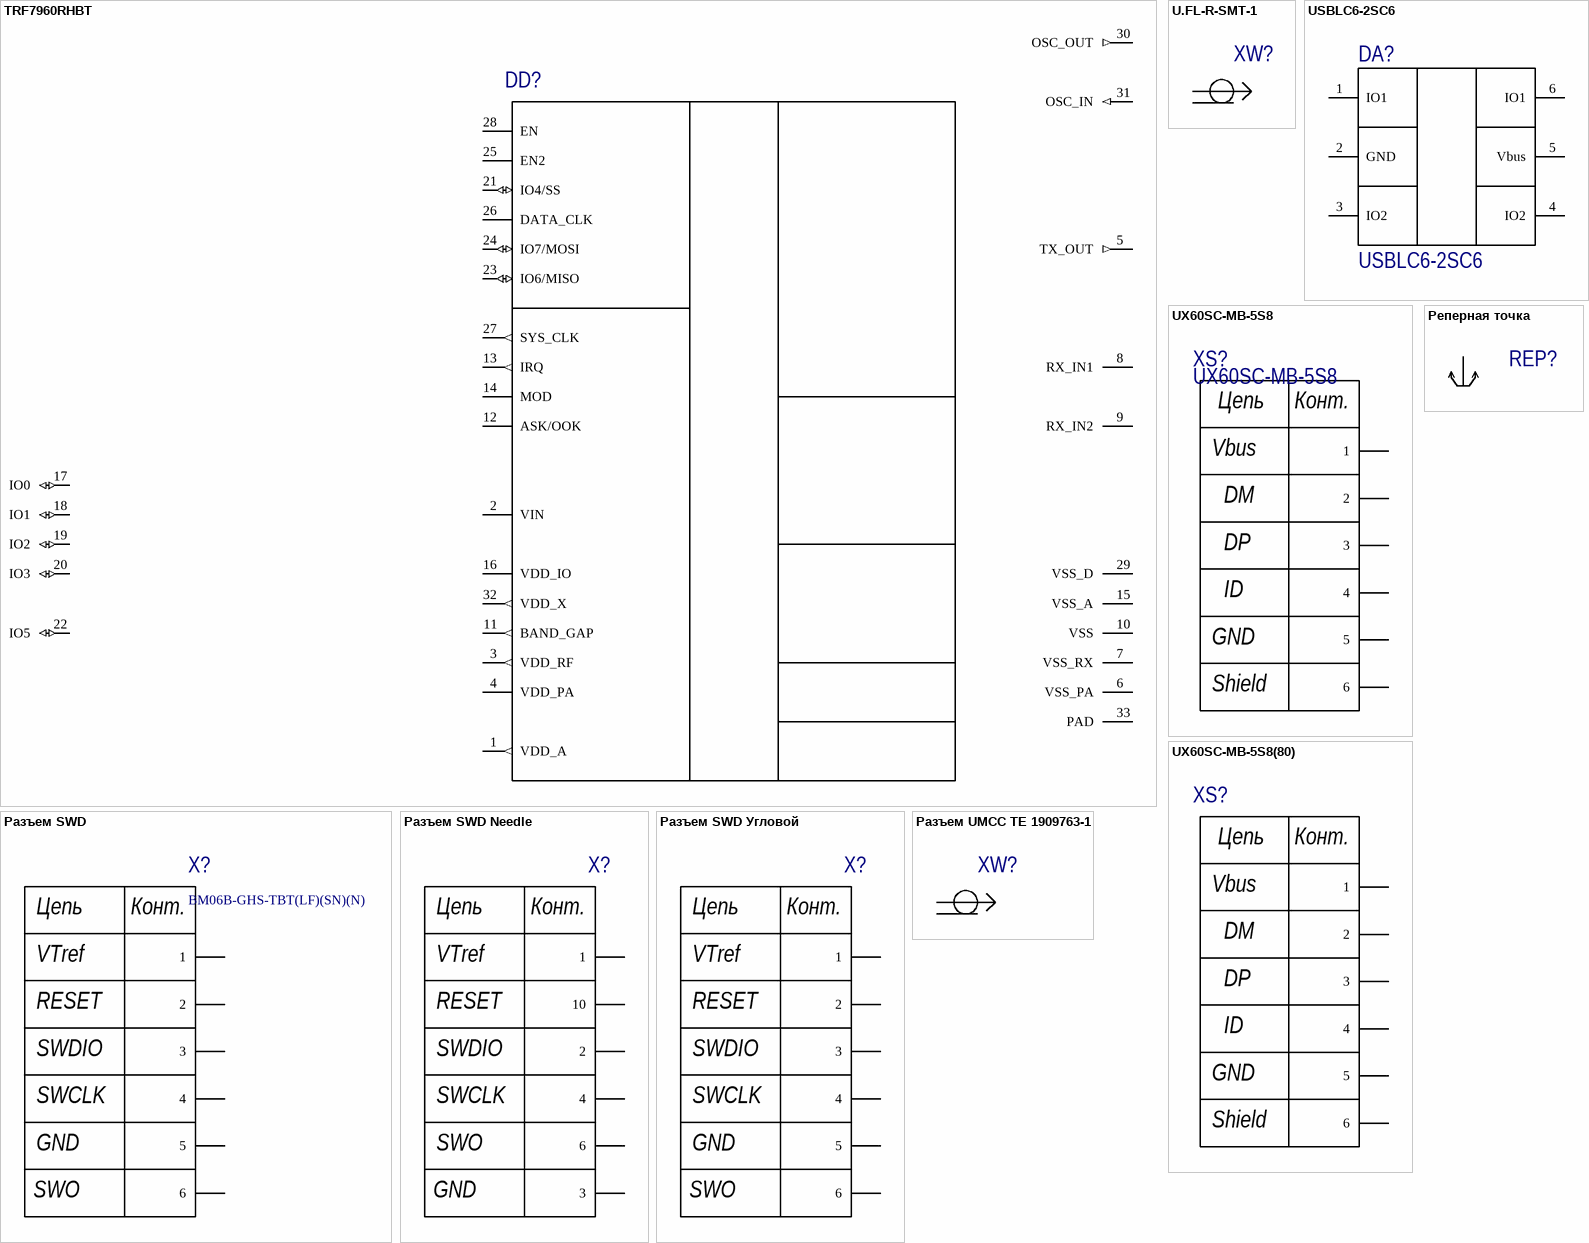
[diagram p6: symbols TRF7960RHBT to Реперная точка]

## TRF7960RHBT
designator DD?  (value not drawn)
13.56 MHz RFID Reader/Writer; PartNo: TRF7960RHBT; Supplier 1: Digi-Key; Supplier Part Number 1: 481-1111-1-ND
pins: 1 VDD_A (out), 2 VIN (power), 3 VDD_RF (out), 4 VDD_PA, 5 TX_OUT (out), 6 VSS_PA (power), 7 VSS_RX (power), 8 RX_IN1, 9 RX_IN2, 10 VSS (power), 11 BAND_GAP (out), 12 ASK/OOK, 13 IRQ (out), 14 MOD, 15 VSS_A (power), 16 VDD_IO, 17 IO0 (io), 18 IO1 (io), 19 IO2 (io), 20 IO3 (io), 21 IO4/SS (io), 22 IO5 (io), 23 IO6/MISO (io), 24 IO7/MOSI (io), 25 EN2, 26 DATA_CLK, 27 SYS_CLK (out), 28 EN, 29 VSS_D (power), 30 OSC_OUT (out), 31 OSC_IN (in), 32 VDD_X (out), 33 PAD (power)

## U.FL-R-SMT-1
designator XW?  (value not drawn)
CONN UMC JACK STR 50 OHM SMD; Manufacturer: Hirose; Manufacturer Part Number: U.FL-R-SMT-1(10); Body Plating: Silver; Body Material: Bronze; Dielectric Material: Polymer; Impedance: 50R; Connector Type: Coaxial,Male Pin,Receptacle; Frequency: 6GHz; Gender: Male; Wire/Cable Type: Coaxial; Insulation Resistance: 500MR; Supplier 1: Digi-Key; Stock 1: 677500; Pricing 1: 2500=0.5945 (USD); Mount: PCB,Surface Mount,Through Hole; Contact Material: Brass,Bronze; Contact Plating: Gold; Housing Colour: Beige; Min Operating Temperature: -40°C; Max Operating Temperature: 90°C; Packaging: Tape and Reel; Termination: Solder; Orientation: Straight; Package Quantity: 2500; Fastening Type: Snap; Max Frequency: 6GHz; Length: 3mm; Depth: 3.1mm; Radiation Hardening: No; Lead Free: Lead Free; REACH SVHC: No SVHC; Supplier Part Number 1: H11891TR-ND; РКД Наименование: *
footprint U.FL-R-SMT-1 (U.FL SMD connector)
pins: 1, 2
1 alternate drawing of the same symbol

## USBLC6-2SC6
designator DA?
USB protection IC; Manufacturer: STMicroelectronics; Direction: Bidirectional,Unidirectional; Capacitance: 3.5pF; Clamping Voltage: 17V; Operating Supply Voltage: 1.1V; Number of Channels: 2; Breakdown Voltage: 6V; Reverse Standoff Voltage: 5.25V; Power Line Protection: Yes; Test Current: 1mA; Max Reverse Leakage Current: 150nA; Peak Pulse Current: 5A; Element Configuration: Dual; Data Rate: 480Mbps; Number of Elements: 1; Working Voltage: 5V; PartNo: USBLC6-2SC6; Supplier 1: Digi-Key; Manufacturer Part Number: USBLC6-2SC6; Stock 1: 165611; Pricing 1: 1=0.49, 10=0.419, 100=0.3131, 500=0.24602, 1000=0.1901 (USD); Mount: Surface Mount; Case/Package: SOT-23; Number of Pins: 6; Contact Plating: Matte,Tin; Min Operating Temperature: -40°C; Max Operating Temperature: 125°C; Packaging: Tape and Reel; Package Quantity: 3000; Termination: SMD/SMT; Number of Bidirectional Channels: 2; Min Breakdown Voltage: 6V; ESD Protection: Yes; Leakage Current: 150nA; Reverse Breakdown Voltage: 6V; Polarity: Bidirectional,Unidirectional; Max Breakdown Voltage: 6V; Length: 3.05mm; Height: 1.3mm; Width: 1.75mm; Depth: 1.75mm; Radiation Hardening: No; REACH SVHC: No SVHC; Lead Free: Lead Free; ComponentLink1URL: http://www.farnell.com/datasheets/1690354.pdf; ComponentLink1Description: http://www.farnell.com/datasheets/1690354.pdf; ComponentLink2URL: http://www.st.com/content/ccc/resource/technical/document/datasheet/06/1d/48/9c/6c/20/4a/b2/CD00050750.pdf/files/CD00050750.pdf/jcr:content/translations/en.CD00050750.pdf; ComponentLink2Description: http://www.st.com/content/ccc/resource/technical/document/datasheet/06/1d/48/9c/6c/20/4a/b2/CD00050750.pdf/files/CD00050750.pdf/jcr:content/translations/en.CD00050750.pdf; ComponentLink3URL: http://www.st.com/web/en/resource/technical/document/datasheet/CD00050750.pdf; ComponentLink3Description: http://www.st.com/web/en/resource/technical/document/datasheet/CD00050750.pdf; ComponentLink4URL: http://datasheet.iiic.cc/stmicroelectronics/USBLC6-2SC6.pdf; ComponentLink4Description: http://datasheet.iiic.cc/stmicroelectronics/USBLC6-2SC6.pdf; ComponentLink5URL: http://www.produktinfo.conrad.com/datenblaetter/1100000-1199999/001184109-da-01-en-IC_ESD_PROTECTI_USBLC6_2SC6_SOT_23_6_STM.pdf; ComponentLink5Description: http://www.produktinfo.conrad.com/datenblaetter/1100000-1199999/001184109-da-01-en-IC_ESD_PROTECTI_USBLC6_2SC6_SOT_23_6_STM.pdf; Supplier Part Number 1: 497-5235-1-ND; РКД Наименование: *
footprint SOT95P280X145-6N (SOT23, 6-Leads, Body 2.90x2.80mm, Pitch 0.95mm, IPC Medium Density)
pins: 1 IO1, 2 GND, 3 IO2, 4 IO2, 5 Vbus, 6 IO1

## UX60SC-MB-5S8
designator XS?
USB - mini B USB 2.0 Receptacle Connector 5 Position Surface Mount, Right Angle; Through Hole; Manufacturer: Hirose; Connector Type: USB,Receptacle; Number of Contacts: 5; Current Rating: 1A; Number of Ports: 1; Insulation Resistance: 100MR; Max Voltage Rating (AC): 5V; USB Standard: USB 2.0; Pitch: 0.8mm; Supplier 1: Digi-Key; Supplier Part Number 1: H11589CT-ND; Manufacturer Part Number: UX60SC-MB-5S8; Stock 1: 16038; Pricing 1: 1=1.05, 10=0.926, 25=0.8712, 50=0.835, 100=0.7986, 250=0.726, 500=0.6534 (USD); Mount: Surface Mount,Horizontal,Through Hole; Contact Material: Copper Alloy,Copper; Contact Plating: Gold; Number of Terminals: 5; Min Operating Temperature: -30°C; Max Operating Temperature: 75°C; Package Quantity: 1000; Packaging: Tape and Reel; Gender: Receptacle; Termination: Solder; Orientation: Right Angle; Number of Rows: 1; Max Current Rating: 1A; Number of Positions: 5; Length: 7.7mm; Depth: 7mm; REACH SVHC: No SVHC; Lead Free: Lead Free; ComponentLink1URL: http://www.farnell.com/datasheets/2043912.pdf?src-supplier=Element14; ComponentLink1Description: http://www.farnell.com/datasheets/2043912.pdf?src-supplier=Element14; ComponentLink2URL: http://www.mouser.com/ds/2/185/UX_catalog-939708.pdf?src-supplier=Mouser; ComponentLink2Description: http://www.mouser.com/ds/2/185/UX_catalog-939708.pdf?src-supplier=Mouser; ComponentLink3URL: https://www.verical.com/server-webapp/html/getDatasheet?partID=457316&src-supplier=Verical; ComponentLink3Description: https://www.verical.com/server-webapp/html/getDatasheet?partID=457316&src-supplier=Verical
pins: 1, 2, 3, 4, 5, 6
text: Цепь; Конт.; Vbus; DM; DP; ID; GND; Shield